# Altium schematic symbol library MX-04.SchLib: 1 symbol
Pins are listed as number, name and electrical type; pins without a type are passive.

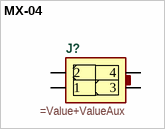
[diagram p0: symbol MX-04]

## MX-04
designator J?
=Description
pins: 1, 2, 3, 4